# EAGLE library part MXC6202 (library eagle-library-edeca.net-v5)
MXC6202 Ultra Low Cost, ±2.0 g Dual Axis Accelerometer With I2C Interface
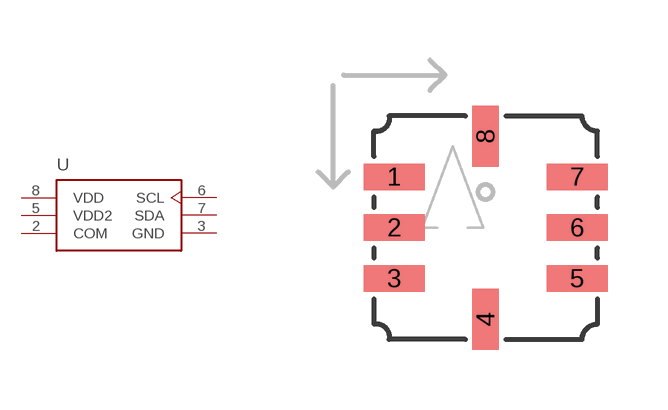
[diagram p5: symbol with the pads of LCC8; footprint LCC8]

Designator prefix -

## MXC6202  [LCC8]
2  COM  pwr
3  GND  pwr
5  VDD2  pwr
6  SCL
7  SDA
8  VDD  pwr

## Footprint LCC8 (pad centres in mm)
LCC8, as used by some accelerometers
smd 1.524 x 0.66: 1 -2.286,1.27; 2 -2.286,0; 3 -2.286,-1.27; 5 2.286,-1.27; 6 2.286,0; 7 2.286,1.27
smd 0.66 x 1.524: 4 0,-2.286; 8 0,2.286